# Altium schematic symbol library Schlib1.SchLib: 19 symbols
Pins are listed as number, name and electrical type; pins without a type are passive.

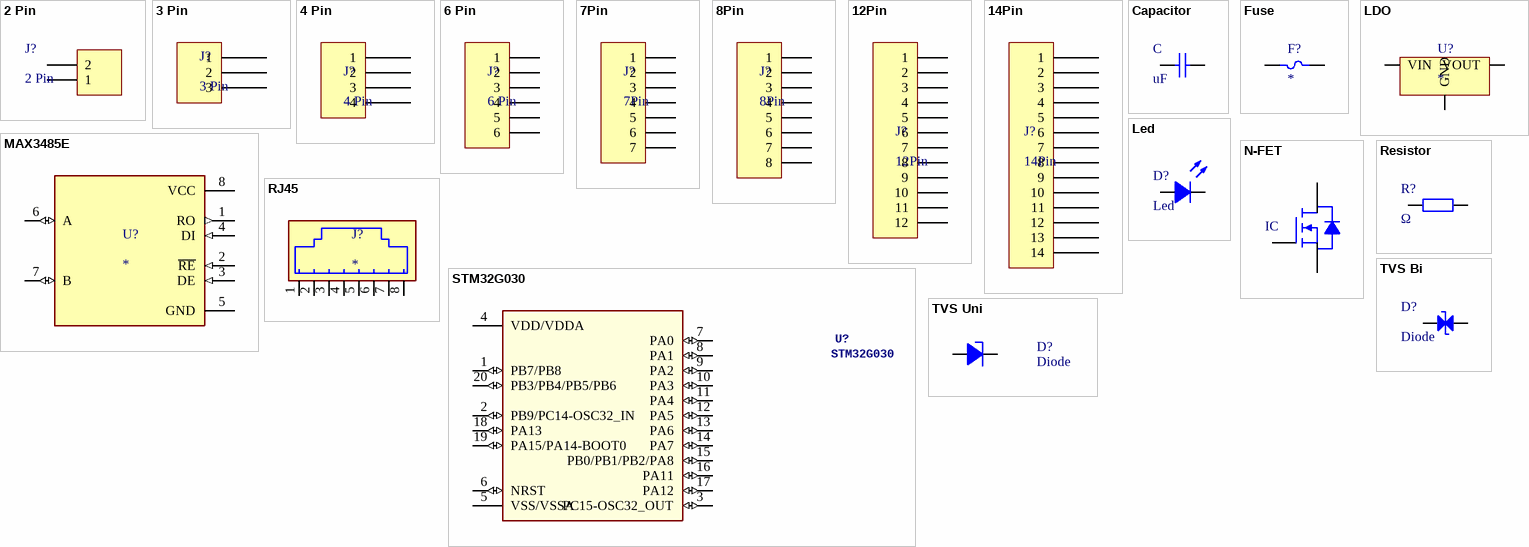
[diagram p0: symbols 2 Pin to TVS Uni]

## 2 Pin
designator J?
pins: 1, 2

## 3 Pin
designator J?
pins: 1, 2, 3

## 4 Pin
designator J?
pins: 1, 2, 3, 4

## 6 Pin
designator J?
footprint Pin-6-254
pins: 1, 2, 3, 4, 5, 6

## 7Pin
designator J?
footprint 7Pin
pins: 1, 2, 3, 4, 5, 6, 7

## 8Pin
designator J?
footprint P-250-208
pins: 1, 2, 3, 4, 5, 6, 7, 8

## 12Pin
designator J?
pins: 1, 2, 3, 4, 5, 6, 7, 8, 9, 10, 11, 12

## 14Pin
designator J?
pins: 1, 2, 3, 4, 5, 6, 7, 8, 9, 10, 11, 12, 13, 14

## Capacitor
designator C, comment uF
footprint C0603
pins: 1, 2

## Fuse
designator F?
footprint PPTC1812
pins: 1, 2

## LDO
designator U?
MP: LP38690DT-5.0/NOPB; MF: Texas Instruments; Availability: Warning; Package: TO-252-3 Texas Instruments; Value: *; Purchase-URL: https://pricing.snapeda.com/search/part/LP38690DT-5.0/NOPB/?ref=eda; SnapEDA_Link: https://www.snapeda.com/parts/LP38690DT-5.0/NOPB/Texas%20Instruments/view-part/25360/?ref=snap; Price: None
footprint SOT-23-5
pins: 1 VIN (power), 2 GND, 5 VOUT (power)

## Led
designator D?
footprint LED_0603_G
footprint LED_0603_B
footprint LED_0603_R
pins: 1, 2

## MAX3485E
designator U?
1/1 Transceiver Half RS422, RS485 8-SOIC; MF: Maxim Integrated; MP: MAX3485EESA+T; Value: *; Package: SOIC-8 Maxim; Check_prices: https://www.snapeda.com/parts/MAX3485EESA+T/Maxim%20Integrated/view-part/574654/?ref=eda; SnapEDA_Link: https://www.snapeda.com/parts/MAX3485EESA+T/Maxim%20Integrated/view-part/574654/?ref=snap; Digi-Key_Part_Number: MAX3485EESA+TCT-ND
footprint SOIC-08
pins: 1 RO (out), 2 ~{RE} (in), 3 DE (in), 4 DI (in), 5 GND (power), 6 A (io), 7 B (io), 8 VCC (power)

## N-FET
designator IC
footprint SOT323
pins: 1 G, 2 S, 3 D

## Resistor
designator R?, comment Ω
footprint R0603
footprint R0805
footprint R1206
footprint R1210
footprint R2512
footprint R0402
pins: 1, 2

## RJ45
designator J?
Jack Modular Connector 8p8c (RJ45, Ethernet) Vertical Unshielded Cat5; MF: Wurth Elektronik; MP: 615008144221; Price: None; Purchase-URL: https://pricing.snapeda.com/search/part/615008144221/?ref=eda; Value: *; Package: None; Availability: In Stock
footprint RJ45_RA
pins: 1 8, 2 7, 3 6, 4 5, 5 4, 6 3, 7 2, 8 1

## STM32G030
designator U?
Mfr_Name: STMicroelectronics; GateName_1: A; SymbolName_1: STM32G030F6P6TR; DeviceName: TSSOP20-L; LibraryName: 2022-06-19_13-31-56_Library; DeviceSetName: STM32G030F6P6TR; Copyright: Copyright (C) 2022 Ultra Librarian. All rights reserved.; Manufacturer_Part_Number: STM32G030F6P6TR
footprint TSSOP20
pins: 1 PB7/PB8 (io), 2 PB9/PC14-OSC32_IN (io), 3 PC15-OSC32_OUT (io), 4 VDD/VDDA (power), 5 VSS/VSSA (power), 6 NRST (io), 7 PA0 (io), 8 PA1 (io), 9 PA2 (io), 10 PA3 (io), 11 PA4 (io), 12 PA5 (io), 13 PA6 (io), 14 PA7 (io), 15 PB0/PB1/PB2/PA8 (io), 16 PA11 (io), 17 PA12 (io), 18 PA13 (io), 19 PA15/PA14-BOOT0 (io), 20 PB3/PB4/PB5/PB6 (io)

## TVS Bi
designator D?, comment Diode
footprint SOD323
pins: 1, 2

## TVS Uni
designator D?, comment Diode
footprint SMB
pins: 1, 2